# Altium schematic symbol library comm sub.SchLib: 89 symbols (part 4 of 4)
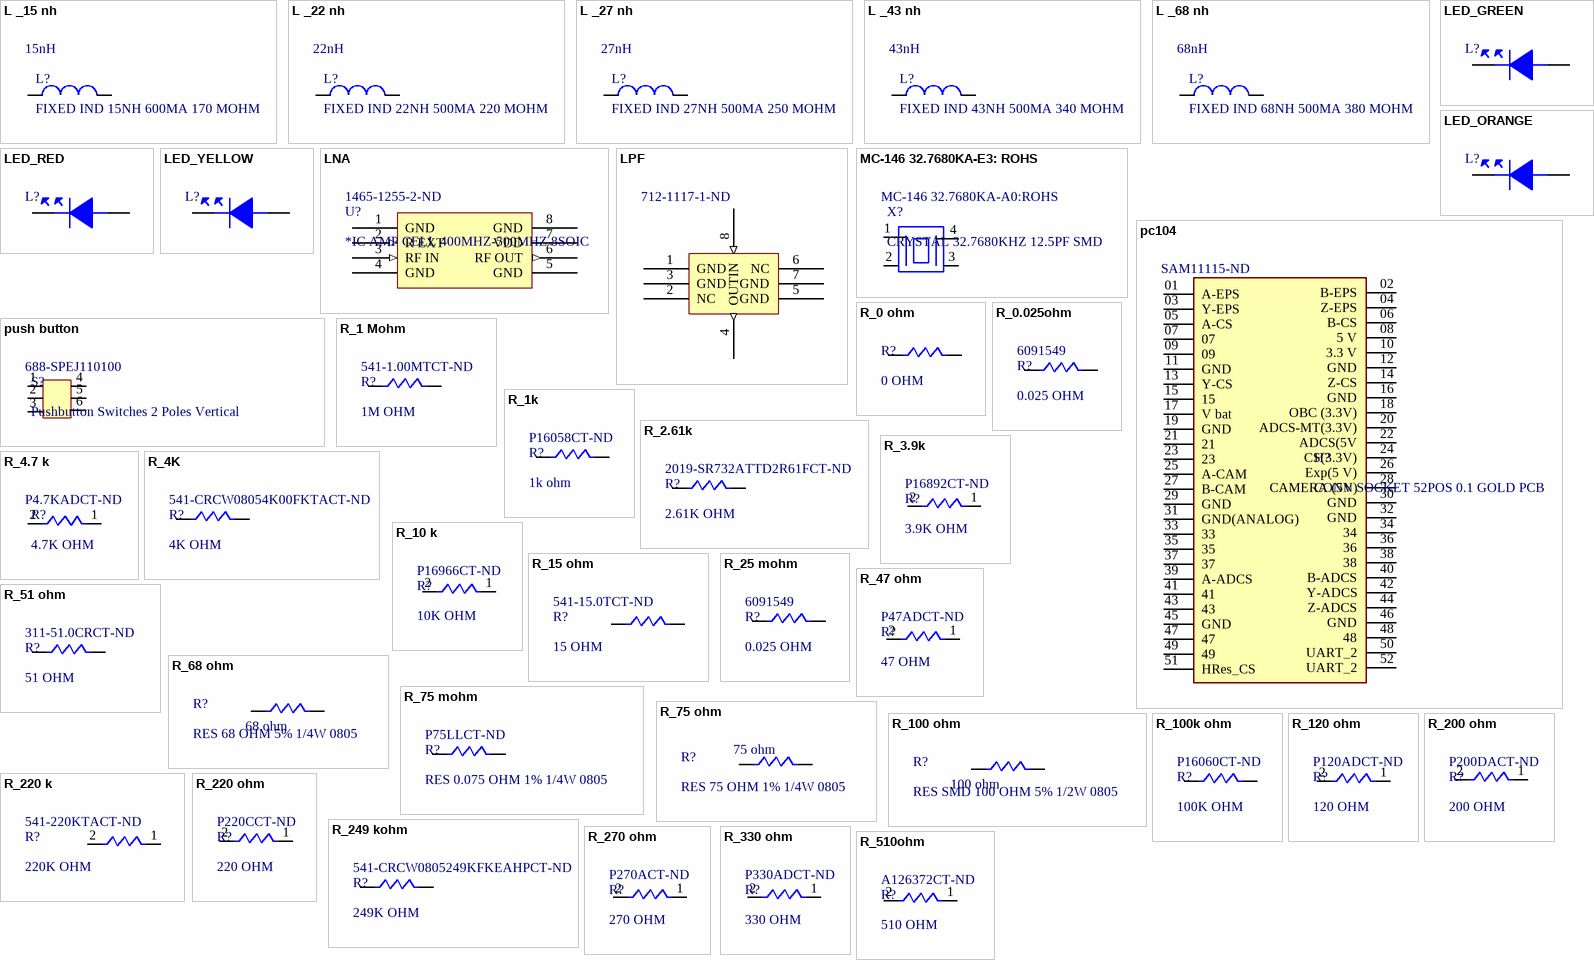
[diagram p5: symbols L _15 nh to R_510ohm]

## R_220 ohm
designator R?, comment 220 OHM  Supplier Part Number 1: P220CCT-ND
220 Ohms ±1% 0.125W, 1/8W Chip Resistor 0805 (2012 Metric) Automotive AEC-Q200 Thick Film; Manufacturer: Panasonic; Manufacturer Part Number: ERJ-P6WF2200V; Max Power Dissipation: 500mW; Temperature Coefficient: 200ppm/°C; Resistance: 220R; Voltage Rating: 150V; Resistance Tolerance: 5%; RoHS: Yes; Case/Package: 0805; Case Code (Imperial): 0805; Case Code (Metric): 2012; Contact Plating: Tin; Min Operating Temperature: -55°C; Max Operating Temperature: 155°C; Number of Terminations: 2; Termination: Flat; Features: Automotive AEC-Q200; Power Rating: 500mW; Tolerance: 1%; Packaging: Cut Tape; Resistor Type: Thick Film; Voltage Rating (DC): 150V; Length: 0.079inch; Width: 0.049inch; Height: 0.03inch; Depth: 1.25mm; REACH SVHC: No SVHC; Mount: Surface Mount; Package Quantity: 1; Series: ERJ; Construction: Rectangular; Radiation Hardening: No; Military Standard: Not; Lead Free: Lead Free; RoHS Compliant: Yes; ComponentLink1URL: https://datasheet.ciiva.com/17206/aoa0000ce4-17206853.pdf?src-supplier=Avnet+Europe; ComponentLink1Description: https://datasheet.ciiva.com/17206/aoa0000ce4-17206853.pdf?src-supplier=Avnet+Europe; ComponentLink2URL: https://datasheet.ciiva.com/7887/aoa0000ce4-7887046.pdf?src-supplier=Element14; ComponentLink2Description: https://datasheet.ciiva.com/7887/aoa0000ce4-7887046.pdf?src-supplier=Element14; ComponentLink3URL: https://datasheet.ciiva.com/9184/aoa0000ce4-9184454.pdf?src-supplier=Avnet; ComponentLink3Description: https://datasheet.ciiva.com/9184/aoa0000ce4-9184454.pdf?src-supplier=Avnet; ComponentLink4URL: https://datasheet.ciiva.com/30254/aoa0000ce4-30254695.pdf?src-supplier=Onlinecomponents.com; ComponentLink4Description: https://datasheet.ciiva.com/30254/aoa0000ce4-30254695.pdf?src-supplier=Onlinecomponents.com; ComponentLink5URL: https://datasheet.ciiva.com/6139/aoa0000ce4-6139150.pdf?src-supplier=Farnell; ComponentLink5Description: https://datasheet.ciiva.com/6139/aoa0000ce4-6139150.pdf?src-supplier=Farnell; Supplier 1: Digi-Key; Stock 1: 417690; Pricing 1: 1 = 0.10000, 10 = 0.06500, 100 = 0.02500, 1000 = 0.01100, 2500 = 0.00950 (USD); Number of Pins: 2; Technology: THICK FILM; ComponentLink6URL: https://datasheet.ciiva.com/11821/0900766b80f80784-11821561.pdf?src-supplier=RSComponents; ComponentLink6Description: https://datasheet.ciiva.com/11821/0900766b80f80784-11821561.pdf?src-supplier=RSComponents; ComponentLink7URL: https://datasheet.ciiva.com/26914/getdatasheetpartid-123856-26914677.pdf?src-supplier=Verical; ComponentLink7Description: https://datasheet.ciiva.com/26914/getdatasheetpartid-123856-26914677.pdf?src-supplier=Verical; ComponentLink8URL: https://datasheet.ciiva.com/43511/aoa0000ce2-43511461.pdf?src-supplier=Onlinecomponents.com; ComponentLink8Description: https://datasheet.ciiva.com/43511/aoa0000ce2-43511461.pdf?src-supplier=Onlinecomponents.com; ComponentLink9URL: https://datasheet.ciiva.com/7887/426256-7887031.pdf?src-supplier=Element14; ComponentLink9Description: https://datasheet.ciiva.com/7887/426256-7887031.pdf?src-supplier=Element14; ComponentLink10URL: https://datasheet.ciiva.com/28568/1678782-28568983.pdf?src-supplier=Element14; ComponentLink10Description: https://datasheet.ciiva.com/28568/1678782-28568983.pdf?src-supplier=Element14; ComponentLink11URL: https://datasheet.ciiva.com/16771/70260748-16771368.pdf?src-supplier=Allied+Electronics; ComponentLink11Description: https://datasheet.ciiva.com/16771/70260748-16771368.pdf?src-supplier=Allied+Electronics; ComponentLink12URL: https://datasheet.ciiva.com/16784/70260748-16784746.pdf?src-supplier=Allied+Electronics; ComponentLink12Description: https://datasheet.ciiva.com/16784/70260748-16784746.pdf?src-supplier=Allied+Electronics; ComponentLink13URL: https://datasheet.ciiva.com/22668/1678782-22668331.pdf?src-supplier=Element14; ComponentLink13Description: https://datasheet.ciiva.com/22668/1678782-22668331.pdf?src-supplier=Element14; ComponentLink14URL: https://datasheet.ciiva.com/9184/aoa0000ce2-9184302.pdf?src-supplier=Avnet; ComponentLink14Description: https://datasheet.ciiva.com/9184/aoa0000ce2-9184302.pdf?src-supplier=Avnet
footprint 0805 R
pins: 1, 2

## R_249 kohm
designator R?, comment 249K OHM  Supplier Part Number 1: 541-CRCW0805249KFKEAHPCT-ND
249 kOhms ±1% 0.5W, 1/2W Chip Resistor 0805 (2012 Metric) Automotive AEC-Q200, Pulse Withstanding Thick Film; Manufacturer: Vishay Dale; Manufacturer Part Number: CRCW0805249KFKEAHP; Resistance: 249kR; Power Rating: 330mW; Max Power Dissipation: 500mW; Temperature Coefficient: 100ppm/°C; ComponentLink1URL: http://www.vishay.com/docs/28773/crcwce3.pdf?src-supplier=Digi-Key; ComponentLink1Description: http://www.vishay.com/docs/28773/crcwce3.pdf?src-supplier=Digi-Key; ComponentLink2URL: https://datasheet.ciiva.com/2581/crcwhpe3-2581775.pdf?src-supplier=Digi-Key; ComponentLink2Description: https://datasheet.ciiva.com/2581/crcwhpe3-2581775.pdf?src-supplier=Digi-Key; Supplier 1: Digi-Key; RoHS: Yes; Stock 1: 4200; Pricing 1: 1 = 0.23000, 10 = 0.19200, 100 = 0.07520, 1000 = 0.03150, 2500 = 0.02888 (USD); Mount: Surface Mount; Case/Package: 0805; Contact Plating: Tin; Min Operating Temperature: -55°C; Max Operating Temperature: 155°C; Package Quantity: 5000; Tolerance: 1%; Packaging: Tape and Reel; Resistor Type: Thick Film; Number of Terminations: 2; Termination: Wraparound; Features: Automotive AEC-Q200; Series: CRCW-HP; Length: 0.079inch; Width: 0.049inch; Height: 0.024inch; Lead Free: Lead Free; RoHS Compliant: Yes
footprint 0805 R
pins: 1, 2

## R_270 ohm
designator R?, comment 270 OHM  Supplier Part Number 1: P270ACT-ND
270 Ohms ±5% 0.125W, 1/8W Chip Resistor 0805 (2012 Metric) Automotive AEC-Q200 Thick Film; Manufacturer: Panasonic; Manufacturer Part Number: ERJ-6ENF2700V; Resistance: 270R; Power Rating: 125mW; Tolerance: 1%; Voltage Rating: 150V; Temperature Coefficient: 100ppm/°C; RoHS: Yes; Mount: Surface Mount; Case/Package: 0805; Number of Pins: 2; Case Code (Metric): 2012; Case Code (Imperial): 0805; Contact Plating: Tin; Weight: 0.000194oz; Min Operating Temperature: -55°C; Max Operating Temperature: 155°C; Packaging: Tape and Reel; Package Quantity: 1; Resistor Type: Thick Film; Number of Terminations: 2; Termination: SMD/SMT; Max Power Dissipation: 125mW; Voltage Rating (DC): 150V; Features: Automotive AEC-Q200; Length: 2mm; Width: 0.049inch; Height: 0.6mm; Depth: 1.25mm; Radiation Hardening: No; REACH SVHC: No SVHC; Military Standard: Not; Lead Free: Lead Free; Supplier 1: Digi-Key; Stock 1: 51818; Pricing 1: 1 = 0.10000, 10 = 0.04900, 100 = 0.02010, 1000 = 0.00901, 2500 = 0.00782 (USD); Working Voltage: 150V; Series: ERJ; Technology: THICK FILM; Resistance Tolerance: 5%; Construction: Rectangular; RoHS Compliant: Yes; ComponentLink1URL: https://datasheet.ciiva.com/34303/1989800-34303655.pdf?src-supplier=Jameco; ComponentLink1Description: https://datasheet.ciiva.com/34303/1989800-34303655.pdf?src-supplier=Jameco; ComponentLink2URL: https://datasheet.ciiva.com/11821/0900766b80f806dd-11821582.pdf?src-supplier=RSComponents; ComponentLink2Description: https://datasheet.ciiva.com/11821/0900766b80f806dd-11821582.pdf?src-supplier=RSComponents; ComponentLink3URL: https://datasheet.ciiva.com/16513/aoa0000ce1-16513781.pdf?src-supplier=Avnet+Asia; ComponentLink3Description: https://datasheet.ciiva.com/16513/aoa0000ce1-16513781.pdf?src-supplier=Avnet+Asia; ComponentLink4URL: https://datasheet.ciiva.com/16769/70255313-16769077.pdf?src-supplier=Allied+Electronics; ComponentLink4Description: https://datasheet.ciiva.com/16769/70255313-16769077.pdf?src-supplier=Allied+Electronics; ComponentLink5URL: https://datasheet.ciiva.com/15159/getdatasheetpartid-250215-15159111.pdf?src-supplier=Verical; ComponentLink5Description: https://datasheet.ciiva.com/15159/getdatasheetpartid-250215-15159111.pdf?src-supplier=Verical; ComponentLink6URL: https://datasheet.ciiva.com/46377/1500035-46377352.pdf?src-supplier=Element14; ComponentLink6Description: https://datasheet.ciiva.com/46377/1500035-46377352.pdf?src-supplier=Element14; ComponentLink7URL: https://datasheet.ciiva.com/9183/aoa0000ce1-9183769.pdf?src-supplier=Avnet; ComponentLink7Description: https://datasheet.ciiva.com/9183/aoa0000ce1-9183769.pdf?src-supplier=Avnet; ComponentLink8URL: https://datasheet.ciiva.com/28591/1678796-28591001.pdf?src-supplier=Element14; ComponentLink8Description: https://datasheet.ciiva.com/28591/1678796-28591001.pdf?src-supplier=Element14; ComponentLink9URL: https://datasheet.ciiva.com/17206/aoa0000ce1-17206494.pdf?src-supplier=Avnet+Europe; ComponentLink9Description: https://datasheet.ciiva.com/17206/aoa0000ce1-17206494.pdf?src-supplier=Avnet+Europe; ComponentLink10URL: https://datasheet.ciiva.com/46389/1500035-46389086.pdf?src-supplier=Element14; ComponentLink10Description: https://datasheet.ciiva.com/46389/1500035-46389086.pdf?src-supplier=Element14; ComponentLink11URL: https://datasheet.ciiva.com/5860/1500035-5860703.pdf?src-supplier=Farnell; ComponentLink11Description: https://datasheet.ciiva.com/5860/1500035-5860703.pdf?src-supplier=Farnell
footprint 0805 R
pins: 1, 2

## R_330 ohm
designator R?, comment 330 OHM  Supplier Part Number 1: P330ADCT-ND
330 Ohms ±5% 0.5W, 1/2W Chip Resistor 0805 (2012 Metric) Automotive AEC-Q200, Pulse Withstanding Thick Film; Manufacturer: Panasonic; Manufacturer Part Number: ERJ-6ENF3300V; Voltage Rating: 150V; Resistance: 330R; Power Rating: 125mW; Tolerance: 1%; Temperature Coefficient: 100ppm/°C; RoHS: Yes; Mount: Surface Mount; Case/Package: 0805; Number of Pins: 2; Case Code (Imperial): 0805; Case Code (Metric): 2012; Contact Plating: Tin; Min Operating Temperature: -55°C; Max Operating Temperature: 155°C; Packaging: Tape and Reel; Package Quantity: 1; Resistor Type: Thick Film; Number of Terminations: 2; Termination: SMD/SMT; Max Power Dissipation: 125mW; Features: Automotive AEC-Q200; Length: 2mm; Width: 1.2mm; Height: 0.6mm; Depth: 1.25mm; Radiation Hardening: No; REACH SVHC: No SVHC; Military Standard: Not; Supplier 1: Digi-Key; Stock 1: 4895; Pricing 1: 1 = 0.10000, 10 = 0.09400, 100 = 0.03600, 1000 = 0.01584, 2500 = 0.01368 (USD); Voltage Rating (DC): 150V; Series: ERJ; Construction: Rectangular; Resistance Tolerance: 5%; Lead Free: Lead Free; RoHS Compliant: Yes; ComponentLink1URL: https://datasheet.ciiva.com/6139/aoa0000ce4-6139161.pdf?src-supplier=Farnell; ComponentLink1Description: https://datasheet.ciiva.com/6139/aoa0000ce4-6139161.pdf?src-supplier=Farnell; ComponentLink2URL: https://datasheet.ciiva.com/30243/aoa0000ce4-30243786.pdf?src-supplier=Onlinecomponents.com; ComponentLink2Description: https://datasheet.ciiva.com/30243/aoa0000ce4-30243786.pdf?src-supplier=Onlinecomponents.com; ComponentLink3URL: https://datasheet.ciiva.com/7887/aoa0000ce4-7887047.pdf?src-supplier=Element14; ComponentLink3Description: https://datasheet.ciiva.com/7887/aoa0000ce4-7887047.pdf?src-supplier=Element14
footprint 0805 R
pins: 1, 2

## R_510ohm
designator R?, comment 510 OHM  Supplier Part Number 1: A126372CT-ND
510 Ohms ±1% 0.125W, 1/8W Chip Resistor 0805 (2012 Metric)  Thick Film; Manufacturer: Panasonic; Manufacturer Part Number: ERJ-6ENF5100V; Voltage Rating: 150V; Power Rating: 125mW; Resistance: 510R; Temperature Coefficient: 100ppm/°C; RoHS: Yes; Mount: Surface Mount; Case/Package: 0805; Case Code (Metric): 2012; Case Code (Imperial): 0805; Contact Plating: Tin; Weight: 0.000194oz; Min Operating Temperature: -55°C; Max Operating Temperature: 155°C; Tolerance: 1%; Packaging: Tape and Reel; Package Quantity: 5000; Resistor Type: Thick Film; Number of Terminations: 2; Termination: SMD/SMT; Max Power Dissipation: 125mW; Length: 2mm; Width: 0.049inch; Height: 0.028inch; Depth: 1.25mm; Radiation Hardening: No; REACH SVHC: No SVHC; Military Standard: Not; Voltage Rating (DC): 150V; Features: Automotive AEC-Q200; Series: ERJ; Construction: Rectangular; Lead Free: Lead Free; RoHS Compliant: Yes; ComponentLink1URL: https://datasheet.ciiva.com/9181/aoa0000ce4-9181545.pdf?src-supplier=Avnet; ComponentLink1Description: https://datasheet.ciiva.com/9181/aoa0000ce4-9181545.pdf?src-supplier=Avnet; ComponentLink2URL: https://datasheet.ciiva.com/30096/aoa0000ce4-30096009.pdf?src-supplier=Onlinecomponents.com; ComponentLink2Description: https://datasheet.ciiva.com/30096/aoa0000ce4-30096009.pdf?src-supplier=Onlinecomponents.com; ComponentLink3URL: https://datasheet.ciiva.com/24041/aoa0000ce4-64075-24041195.pdf?src-supplier=Mouser; ComponentLink3Description: https://datasheet.ciiva.com/24041/aoa0000ce4-64075-24041195.pdf?src-supplier=Mouser; ComponentLink4URL: https://datasheet.ciiva.com/17205/aoa0000ce4-17205436.pdf?src-supplier=Avnet+Europe; ComponentLink4Description: https://datasheet.ciiva.com/17205/aoa0000ce4-17205436.pdf?src-supplier=Avnet+Europe; Supplier 1: Digi-Key; Stock 1: 208800; Pricing 1: 1 = 0.10000, 10 = 0.04500, 100 = 0.01820, 1000 = 0.00816, 2500 = 0.00708 (USD); ComponentLink5URL: https://datasheet.ciiva.com/2530/eng-cd-1623243-ba-2530161.pdf?src-supplier=Digi-Key; ComponentLink5Description: https://datasheet.ciiva.com/2530/eng-cd-1623243-ba-2530161.pdf?src-supplier=Digi-Key; ComponentLink6URL: https://datasheet.ciiva.com/30065/eng-ds-1773204-e-30065884.pdf?src-supplier=Onlinecomponents.com; ComponentLink6Description: https://datasheet.ciiva.com/30065/eng-ds-1773204-e-30065884.pdf?src-supplier=Onlinecomponents.com
footprint 0805 R
pins: 1, 2

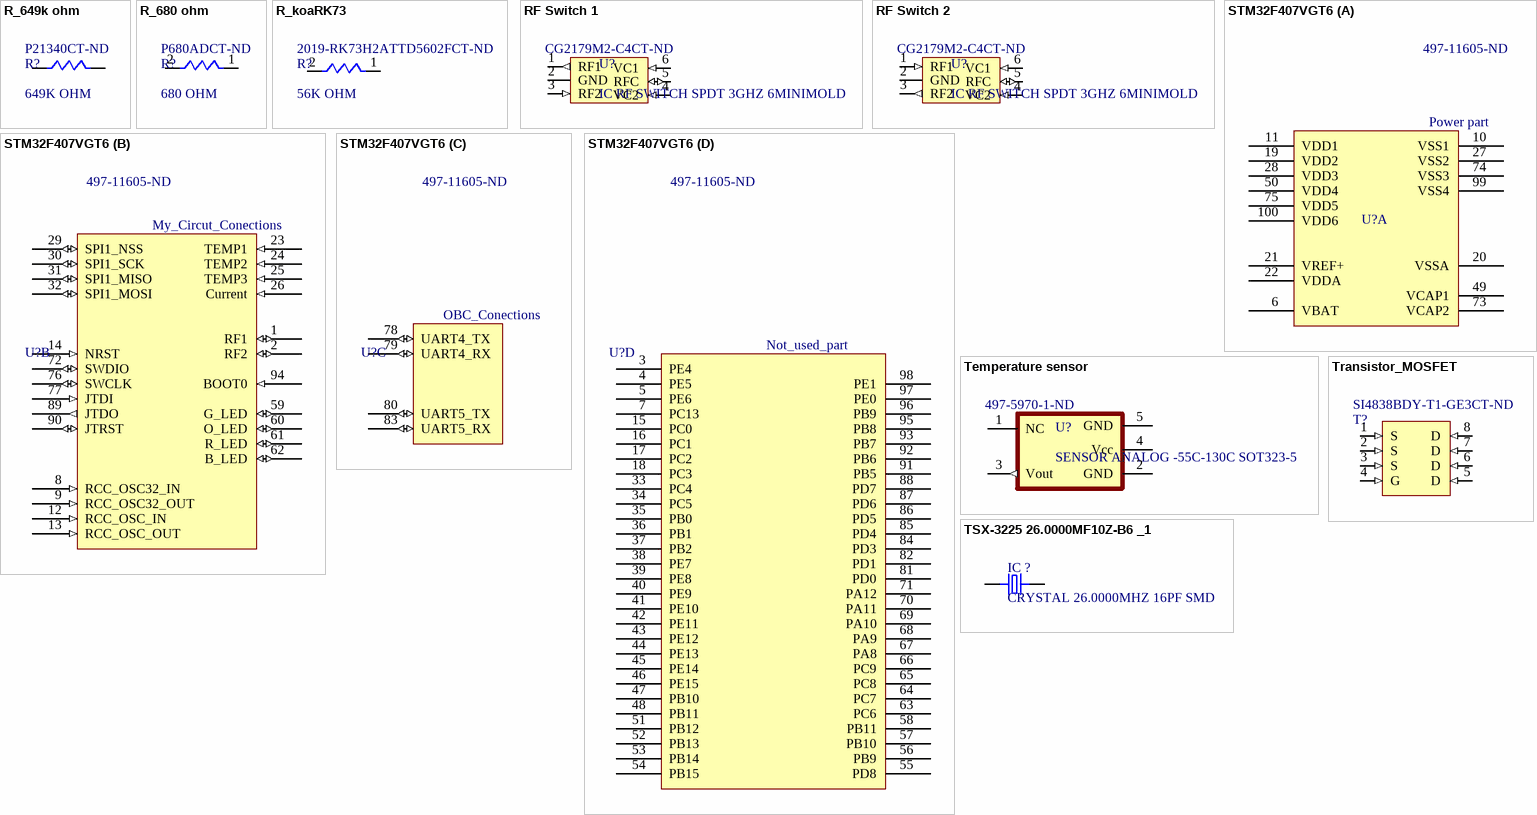
[diagram p2: symbols R_649k ohm to TSX-3225 26.0000MF10Z-B6 _1]

## R_649k ohm
designator R?, comment 649K OHM  Supplier Part Number 1: P21340CT-ND
649 kOhms ±0.5% 0.25W, 1/4W Chip Resistor 0805 (2012 Metric) Automotive AEC-Q200, Pulse Withstanding Thick Film; Manufacturer: Vishay; Manufacturer Part Number: CRCW08050000Z0EAC; Power Rating: 125mW; Resistance: 20R; Max Power Dissipation: 250mW; Temperature Coefficient: 50ppm/°C; RoHS: Yes; Mount: Surface Mount; Case/Package: Molded; Contact Plating: Tin; Min Operating Temperature: -55°C; Max Operating Temperature: 155°C; Resistor Type: Thick Film; Termination: Wraparound; Length: 2mm; Lead Free: Lead Free; ComponentLink1URL: http://www.vishay.com/docs/28773/crcwce3.pdf?src-supplier=Digi-Key; ComponentLink1Description: http://www.vishay.com/docs/28773/crcwce3.pdf?src-supplier=Digi-Key; Supplier 1: Digi-Key; Stock 1: 4016; Pricing 1: 1 = 0.23000, 10 = 0.19100, 25 = 0.13920, 50 = 0.10100, 100 = 0.07480, 250 = 0.05744, 500 = 0.04524, 1000 = 0.03132 (USD); Case Code (Imperial): 0805; Case Code (Metric): 2012; Tolerance: 0.5%; Packaging: Tape and Reel; Number of Terminations: 2; Features: Automotive AEC-Q200; Width: 0.049inch; Height - Seated (Max): 0.028inch; ComponentLink2URL: https://industrial.panasonic.com/sa/system/files/data/download/catalog/id_fixed-resistors_e_2.pdf?src-supplier=Digi-Key; ComponentLink2Description: https://industrial.panasonic.com/sa/system/files/data/download/catalog/id_fixed-resistors_e_2.pdf?src-supplier=Digi-Key
footprint 0805 R
pins: 1, 2

## R_680 ohm
designator R?, comment 680 OHM  Supplier Part Number 1: P680ADCT-ND
680 Ohms ±5% 0.5W, 1/2W Chip Resistor 0805 (2012 Metric) Automotive AEC-Q200, Pulse Withstanding Thick Film; Manufacturer: Panasonic; Manufacturer Part Number: ERJ6ENF6800V; Resistance: 680R; Power Rating: 125mW; Tolerance: 1%; Voltage Rating: 150V; Temperature Coefficient: 100ppm/°C; RoHS: Yes; Mount: Surface Mount; Case/Package: 0805; Number of Pins: 2; Case Code (Metric): 2012; Case Code (Imperial): 0805; Contact Plating: Tin; Min Operating Temperature: -55°C; Max Operating Temperature: 155°C; Packaging: Tape and Reel; Package Quantity: 1; Resistor Type: Thick Film; Number of Terminations: 2; Termination: SMD/SMT; Max Power Dissipation: 125mW; Features: Automotive AEC-Q200; Length: 2mm; Width: 0.049inch; Height: 0.6mm; Depth: 1.25mm; Radiation Hardening: No; REACH SVHC: No SVHC; Military Standard: Not; Supplier 1: Digi-Key; Stock 1: 1807; Pricing 1: 1 = 0.10000, 10 = 0.09400, 100 = 0.03600, 1000 = 0.01584, 2500 = 0.01512 (USD); Voltage Rating (DC): 150V; Series: ERJ; Construction: Rectangular; Lead Free: Lead Free; RoHS Compliant: Yes; ComponentLink1URL: https://datasheet.ciiva.com/24027/aoa0000ce4-64075-24027685.pdf?src-supplier=Mouser; ComponentLink1Description: https://datasheet.ciiva.com/24027/aoa0000ce4-64075-24027685.pdf?src-supplier=Mouser; ComponentLink2URL: https://datasheet.ciiva.com/17205/aoa0000ce4-17205309.pdf?src-supplier=Avnet+Europe; ComponentLink2Description: https://datasheet.ciiva.com/17205/aoa0000ce4-17205309.pdf?src-supplier=Avnet+Europe; ComponentLink3URL: https://datasheet.ciiva.com/30257/aoa0000ce4-30257881.pdf?src-supplier=Onlinecomponents.com; ComponentLink3Description: https://datasheet.ciiva.com/30257/aoa0000ce4-30257881.pdf?src-supplier=Onlinecomponents.com; ComponentLink4URL: https://datasheet.ciiva.com/9180/aoa0000ce4-9180604.pdf?src-supplier=Avnet; ComponentLink4Description: https://datasheet.ciiva.com/9180/aoa0000ce4-9180604.pdf?src-supplier=Avnet
footprint 0805 R
pins: 1, 2

## R_koaRK73
designator R?, comment 56K OHM  Supplier Part Number 1: 2019-RK73H2ATTD5602FCT-ND
56 kOhms ±5% 0.25W, 1/4W Chip Resistor 0805 (2012 Metric) Automotive AEC-Q200, Moisture Resistant Thick Film; Manufacturer: Panasonic; Manufacturer Part Number: ERJ-6ENF3901V; Tolerance: 1%; Resistance: 3.9kR; Power Rating: 125mW; Voltage Rating: 150V; Temperature Coefficient: 100ppm/°C; RoHS: Yes; Mount: Surface Mount; Case/Package: 0805; Case Code (Metric): 2012; Case Code (Imperial): 0805; Contact Plating: Tin; Min Operating Temperature: -55°C; Max Operating Temperature: 155°C; Packaging: Tape and Reel; Package Quantity: 1; Resistor Type: Thick Film; Number of Terminations: 2; Termination: SMD/SMT; Max Power Dissipation: 125mW; Voltage Rating (DC): 150V; Features: Automotive AEC-Q200; Length: 2mm; Width: 0.049inch; Height: 0.6mm; Depth: 1.25mm; Radiation Hardening: No; Lead Free: Lead Free; REACH SVHC: Yes; Military Standard: Not; Number of Pins: 2; ComponentLink1URL: https://datasheet.ciiva.com/7706/548635-7706044.pdf?src-supplier=Element14; ComponentLink1Description: https://datasheet.ciiva.com/7706/548635-7706044.pdf?src-supplier=Element14; Supplier 1: Digi-Key
footprint 0805 R
pins: 1, 2

## RF Switch 1
designator U?, comment IC RF SWITCH SPDT 3GHZ 6MINIMOLD  Supplier Part Number 1: CG2179M2-C4CT-ND
RF Switch IC 802.11b/g/n/ac SPDT 3GHz 50Ohm 6-Minimold; Manufacturer: CEL; Manufacturer Part Number: CG2179M2-C4; Insertion Loss: 0.45dB; IIP3: 58dBm; Impedance: 50R; Supplier 1: Digi-Key; RoHS: No; Stock 1: 42321; Pricing 1: 1 = 0.71000, 10 = 0.62700, 25 = 0.58920, 100 = 0.48070, 250 = 0.44652, 500 = 0.38000, 1000 = 0.27930, 2500 = 0.25270, 5000 = 0.23560 (USD); Case/Package: SMD/SMT; Min Operating Temperature: -45°C; Max Operating Temperature: 85°C; Throw Configuration: SPDT; Packaging: Tape and Reel; Test Frequency: 3GHz; Lead Free: Lead Free; ComponentLink1URL: http://www.cel.com/pdf/datasheets/CG2179M2.pdf?src-supplier=Digi-Key; ComponentLink1Description: http://www.cel.com/pdf/datasheets/CG2179M2.pdf?src-supplier=Digi-Key
footprint RF
pins: 1 RF1 (out), 2 GND, 3 RF2 (in), 4 VC2 (in), 5 RFC (io), 6 VC1 (in)

## RF Switch 2
designator U?, comment IC RF SWITCH SPDT 3GHZ 6MINIMOLD  Supplier Part Number 1: CG2179M2-C4CT-ND
RF Switch IC 802.11b/g/n/ac SPDT 3GHz 50Ohm 6-Minimold; Manufacturer: CEL; Manufacturer Part Number: CG2179M2-C4; Insertion Loss: 0.45dB; IIP3: 58dBm; Impedance: 50R; RoHS: No; Case/Package: SMD/SMT; Min Operating Temperature: -45°C; Max Operating Temperature: 85°C; Throw Configuration: SPDT; Packaging: Tape and Reel; Test Frequency: 3GHz; Lead Free: Lead Free; ComponentLink1URL: http://www.cel.com/pdf/datasheets/CG2179M2.pdf?src-supplier=Digi-Key; ComponentLink1Description: http://www.cel.com/pdf/datasheets/CG2179M2.pdf?src-supplier=Digi-Key; Supplier 1: Digi-Key
footprint RF
pins: 1 RF1 (in), 2 GND, 3 RF2 (out), 4 VC2 (in), 5 RFC (io), 6 VC1 (in)

## STM32F407VGT6
designator U?, comment Supplier Part Number 1: 497-11605-ND  (hidden comment: IC MCU 32BIT 1MB FLASH 100LQFP)
ARM® Cortex®-M4 STM32F4 Microcontroller IC 32-Bit 168MHz 1MB (1M x 8) FLASH 100-LQFP (14x14); Manufacturer: STMicroelectronics; Manufacturer Part Number: STM32F407VGT6; Interface: I2C,SPI,CAN,I2S,UART,USB,Ethernet,IrDA,USART,LIN,EBI/EMI; Number of I/Os: 82; Number of Timers/Counters: 14; RAM Size: 196KB; Number of ADC Channels: 16; Number of PWM Channels: 2; Number of Ethernet Channels: 1; Max Supply Voltage: 3.6V; Min Supply Voltage: 1.8V; Data Bus Width: 32b; Oscillator Type: Internal; Number of SPI Channels: 3; Watchdog Timer: Yes; Memory Size: 1024KB; Peripherals: Brown-out Detect/Reset,POR,PWM,WDT,DMA,LCD,I2C; Core Architecture: ARM; Supplier 1: Digi-Key; RoHS: Yes; Stock 1: 6428; Pricing 1: 1 = 12.86000, 10 = 11.82200, 25 = 11.33200, 90 = 9.98444, 270 = 9.49437, 450 = 8.88182, 990 = 8.14678, 2430 = 7.84051 (USD); Case/Package: LQFP; Number of Pins: 100; Min Operating Temperature: -40°C; Max Operating Temperature: 85°C; Frequency: 168MHz; Package Quantity: 90; Number of UART Channels: 2; Packaging: Tray; Number of Programmable I/O: 82; Max Frequency: 168MHz; Number of I2C Channels: 3; Address Bus Width: 32b; Memory Type: FLASH; Length: 14.2mm; Width: 14.2mm; Height: 1.45mm; Radiation Hardening: No; REACH SVHC: No SVHC; Lead Free: Lead Free; ComponentLink1URL: https://datasheet.ciiva.com/14132/stm32f407vgt6-tds-eng-14132567.pdf?src-supplier=Distrelec; ComponentLink1Description: https://datasheet.ciiva.com/14132/stm32f407vgt6-tds-eng-14132567.pdf?src-supplier=Distrelec; ComponentLink2URL: https://datasheet.ciiva.com/4842/dm00037051-492832-4842280.pdf?src-supplier=Mouser; ComponentLink2Description: https://datasheet.ciiva.com/4842/dm00037051-492832-4842280.pdf?src-supplier=Mouser; ComponentLink3URL: https://datasheet.ciiva.com/48687/001075599-da-01-en-mcu-32bt-1mb-stm32f407vgt6-lqfp-100-stm-48687547.pdf?src-supplier=Conrad; ComponentLink3Description: https://datasheet.ciiva.com/48687/001075599-da-01-en-mcu-32bt-1mb-stm32f407vgt6-lqfp-100-stm-48687547.pdf?src-supplier=Conrad
footprint STM32F407VGT6 P (TSQFP, 100-Leads, Body 14.00x14.00mm, Pitch 0.50mm, IPC Medium Density)
part A pins: 6 VBAT (power) "VBat", 10 VSS1 (power) "VSS", 11 VDD1 (power) "VDD", 19 VDD2 (power) "VDD", 20 VSSA (power), 21 VREF+ (power), 22 VDDA (power), 27 VSS2 (power) "VSS", 28 VDD3 (power) "VDD", 49 VCAP1 (power) "V_CAP1", 50 VDD4 (power) "VDD", 73 VCAP2 (power) "V_CAP2", 74 VSS3 (power) "VSS", 75 VDD5 (power) "VDD", 99 VSS4 (power) "VSS", 100 VDD6 (power) "VDD"
part B pins: 1 RF1 (io), 2 RF2 (io), 8 RCC_OSC32_IN (in), 9 RCC_OSC32_OUT (in), 12 RCC_OSC_IN (in), 13 RCC_OSC_OUT (in), 14 NRST (in), 23 TEMP1 (in), 24 TEMP2 (in), 25 TEMP3 (in), 26 Current (in), 29 SPI1_NSS (io), 30 SPI1_SCK (io), 31 SPI1_MISO (io), 32 SPI1_MOSI (io), 59 G_LED (io), 60 O_LED (io), 61 R_LED (io), 62 B_LED (io), 72 SWDIO (io), 76 SWCLK (io), 77 JTDI (in), 89 JTDO (out), 90 JTRST (io), 94 BOOT0 (in)
part C pins: 78 UART4_TX (io), 79 UART4_RX (io), 80 UART5_TX (io), 83 UART5_RX (io)
part D pins: 3 PE4, 4 PE5, 5 PE6, 7 PC13, 15 PC0, 16 PC1, 17 PC2, 18 PC3, 33 PC4, 34 PC5, 35 PB0, 36 PB1, 37 PB2, 38 PE7, 39 PE8, 40 PE9, 41 PE10, 42 PE11, 43 PE12, 44 PE13, 45 PE14, 46 PE15, 47 PB10, 48 PB11, 51 PB12, 52 PB13, 53 PB14, 54 PB15, 55 PD8, 56 PB9, 57 PB10, 58 PB11, 63 PC6, 64 PC7, 65 PC8, 66 PC9, 67 PA8, 68 PA9, 69 PA10, 70 PA11, 71 PA12, 81 PD0, 82 PD1, 84 PD3, 85 PD4, 86 PD5, 87 PD6, 88 PD7, 91 PB5, 92 PB6, 93 PB7, 95 PB8, 96 PB9, 97 PE0, 98 PE1
part A text: Power part
part B text: My_Circut_Conections
part C text: OBC_Conections
part D text: Not_used_part

## Temperature sensor
designator U?, comment SENSOR ANALOG -55C-130C SOT323-5  Supplier Part Number 1: 497-5970-1-ND
Temperature Sensor Analog, Local -55°C ~ 130°C 11.77mV/°C SOT-323-5; Manufacturer: Texas Instruments; Manufacturer Part Number: TPS79933QDDCRQ1; MP: MAX9938FEUK+T; MF: Maxim Integrated; Number of Outputs: 1; Output Voltage: 3.3V; Max Power Dissipation: 500mW; Dropout Voltage: 90mV; Output Current: 200mA; Max Input Voltage: 6.5V; Min Input Voltage: 2.7V; Polarity: Positive; Accuracy: 2%; Output Voltage Accuracy: 1%; Quiescent Current: 40uA; Output Type: Fixed; Min Supply Voltage: 2.4V; Max Supply Voltage: 5.5V; Nominal Supply Current: 8uA; Purchase-URL: https://pricing.snapeda.com/search/part/MAX9938FEUK+T/?ref=eda; Price: None; Availability: Warning; SnapEDA_Link: https://www.snapeda.com/parts/MAX9938FEUK+T/Maxim%20Integrated/view-part/559558/?ref=snap; Check_prices: https://www.snapeda.com/parts/MAX9938FEUK+T/Maxim%20Integrated/view-part/559558/?ref=eda; Value: *; Package: SOT-5 Maxim; RoHS: Yes; Case/Package: TSOT; Number of Pins: 5; Contact Plating: Gold; Min Operating Temperature: -40°C; Max Operating Temperature: 125°C; Packaging: Tape and Reel; Package Quantity: 1; Max Output Current: 200mA; Number of Regulators: 1; Min Current Limit: 200mA; Nominal Output Voltage: 3.3V; Power Dissipation: 500mW; Min Output Voltage: 3.3V; Max Output Voltage: 3.3V; Radiation Hardening: No; REACH SVHC: No SVHC; Lead Free: Lead Free; Supplier 1: Digi-Key; Stock 1: 34551; Pricing 1: 1 = 0.83000, 10 = 0.72900, 25 = 0.68520, 100 = 0.55910, 500 = 0.44200, 1000 = 0.35360 (USD); Mount: Surface Mount; Max Supply Voltage (DC): 5.5V; Min Supply Voltage (DC): 2.4V; Operating Supply Current: 8uA; Termination: SMD/SMT; Series: STLM20; Supply Current: 8uA; Length: 2.2mm; Width: 1.35mm; Height: 1mm; RoHS Compliant: Yes; ComponentLink1URL: https://datasheet.ciiva.com/1514/1455553-1514032.pdf?src-supplier=Element14; ComponentLink1Description: https://datasheet.ciiva.com/1514/1455553-1514032.pdf?src-supplier=Element14; ComponentLink2URL: https://datasheet.ciiva.com/16635/cd00119601-16635456.pdf?src-supplier=Avnet+Europe; ComponentLink2Description: https://datasheet.ciiva.com/16635/cd00119601-16635456.pdf?src-supplier=Avnet+Europe; ComponentLink3URL: https://datasheet.ciiva.com/15098/getdatasheetpartid-50614-15098126.pdf?src-supplier=Verical; ComponentLink3Description: https://datasheet.ciiva.com/15098/getdatasheetpartid-50614-15098126.pdf?src-supplier=Verical; ComponentLink4URL: https://datasheet.ciiva.com/2847/cd00119601-2847248.pdf?src-supplier=Digi-Key; ComponentLink4Description: https://datasheet.ciiva.com/2847/cd00119601-2847248.pdf?src-supplier=Digi-Key; ComponentLink5URL: https://datasheet.ciiva.com/2847/cd00119601-2847249.pdf?src-supplier=Digi-Key; ComponentLink5Description: https://datasheet.ciiva.com/2847/cd00119601-2847249.pdf?src-supplier=Digi-Key
footprint temperture sensor (SOT23, 5-Leads, Body 2.00x2.10mm, Pitch 0.65mm, IPC Medium Density)
pins: 1 NC (power), 2 GND (power), 3 Vout (out), 4 Vcc (power), 5 GND (power)

## Transistor_MOSFET
designator T?, comment Supplier Part Number 1: SI4838BDY-T1-GE3CT-ND  (hidden comment: MOSFET N-CH 12V 34A 8-SOIC)
N-Channel 12V 34A (Tc) 2.5W (Ta), 5.7W (Tc) Surface Mount 8-SO; Manufacturer: Vishay Siliconix; Manufacturer Part Number: SI4838BDY-T1-GE3; Rds On Max: 2.7mR; Input Capacitance: 5.76nF; Rise Time: 92ns; Nominal Vgs: 400mV; Gate to Source Voltage (Vgs): 8V; Fall Time: 19ns; Turn-Off Delay Time: 34ns; Number of Elements: 1; Element Configuration: Single; Turn-On Delay Time: 48ns; ComponentLink1Description: Datta sheet; ComponentLink1URL: https://www.vishay.com/docs/68964/si4838bd.pdf; ComponentLink2Description: https://www.digikey.com/en/products/detail/vishay-siliconix/SI4838BDY-T1-GE3/2441666?s=N4IgTCBcDaIM4EsAsAOAzCgRgEwJ4FoAXARnwHMBTNEAXQF8g; ComponentLink2URL: https://www.digikey.com/en/products/detail/vishay-siliconix/SI4838BDY-T1-GE3/2441666?s=N4IgTCBcDaIM4EsAsAOAzCgRgEwJ4FoAXARnwHMBTNEAXQF8g; Supplier 1: Digi-Key; RoHS: Yes; Stock 1: 2068; Pricing 1: 1 = 1.64000, 10 = 1.34500, 25 = 1.32040, 100 = 1.04620, 500 = 0.88680, 1000 = 0.72239 (USD); Mount: Surface Mount; Case/Package: SOIC; Number of Pins: 8; Weight: 0.01787oz; Min Operating Temperature: -55°C; Max Operating Temperature: 150°C; Packaging: Tape and Reel; Package Quantity: 1; Drain to Source Voltage (Vdss): 12V; Continuous Drain Current (ID): 34A; Max Power Dissipation: 5.7W; Drain to Source Breakdown Voltage: 12V; Drain to Source Resistance: 2.7mR; Threshold Voltage: 400mV; Power Dissipation: 2.5W; Number of Channels: 1; On-State Resistance: 2.7mR; Polarity: N-CHANNEL; Series: TrenchFET®; Drain-source On Resistance-Max: 2.7mR; Length: 5mm; Width: 4mm; Height: 1.5mm; Radiation Hardening: No; REACH SVHC: Unknown; Lead Free: Lead Free; RoHS Compliant: Yes; ComponentLink3URL: https://datasheet.ciiva.com/26137/si4838bd-26137041.pdf?src-supplier=Avnet+Europe; ComponentLink3Description: https://datasheet.ciiva.com/26137/si4838bd-26137041.pdf?src-supplier=Avnet+Europe; ComponentLink4URL: https://datasheet.ciiva.com/23856/1719793-23856870.pdf?src-supplier=Newark; ComponentLink4Description: https://datasheet.ciiva.com/23856/1719793-23856870.pdf?src-supplier=Newark; ComponentLink5URL: https://datasheet.ciiva.com/4442/si4838bd-244494-4442712.pdf?src-supplier=Mouser; ComponentLink5Description: https://datasheet.ciiva.com/4442/si4838bd-244494-4442712.pdf?src-supplier=Mouser; ComponentLink6URL: https://datasheet.ciiva.com/26790/si4838bdy-t1-ge3-26790470.pdf?src-supplier=IIIC; ComponentLink6Description: https://datasheet.ciiva.com/26790/si4838bdy-t1-ge3-26790470.pdf?src-supplier=IIIC; ComponentLink7URL: https://datasheet.ciiva.com/943/si4838bd-943924.pdf?src-supplier=Digi-Key; ComponentLink7Description: https://datasheet.ciiva.com/943/si4838bd-943924.pdf?src-supplier=Digi-Key; ComponentLink8URL: https://datasheet.ciiva.com/6386/si4838bd-6386826.pdf?src-supplier=Digi-Key; ComponentLink8Description: https://datasheet.ciiva.com/6386/si4838bd-6386826.pdf?src-supplier=Digi-Key; ComponentLink9URL: https://datasheet.ciiva.com/22652/1719793-22652347.pdf?src-supplier=Element14; ComponentLink9Description: https://datasheet.ciiva.com/22652/1719793-22652347.pdf?src-supplier=Element14; ComponentLink10URL: https://datasheet.ciiva.com/6386/si4838bd-6386828.pdf?src-supplier=Digi-Key; ComponentLink10Description: https://datasheet.ciiva.com/6386/si4838bd-6386828.pdf?src-supplier=Digi-Key; ComponentLink11URL: https://datasheet.ciiva.com/11160/si4838bd-11160527.pdf?src-supplier=Avnet; ComponentLink11Description: https://datasheet.ciiva.com/11160/si4838bd-11160527.pdf?src-supplier=Avnet
footprint Transistor_MOSFET (SOIC, 8-Leads, Body 4.90x3.90mm, Pitch 1.27mm, IPC Medium Density)
pins: 1 S (in), 2 S (in), 3 S (in), 4 G (in), 5 D (in), 6 D (in), 7 D (in), 8 D (in)

## TSX-3225 26.0000MF10Z-B6 _1
designator IC ?, comment CRYSTAL 26.0000MHZ 16PF SMD
26MHz ±10ppm Crystal 16pF 40 Ohms 4-SMD, No Lead; Manufacturer: ECS International; MF: ECS Inc.; MP: ECS-80-32-5PX-TR; Frequency: 8MHz; Load Capacitance: 32pF; Tolerance: 30ppm; ESR (Equivalent Series Resistance): 60R; Frequency Stability: 50ppm; Digi-Key_Purchase_URL: https://www.digikey.ru/product-detail/en/ecs-inc/ECS-80-32-5PX-TR/XC1272CT-ND/827736?utm_source=snapeda&utm_medium=aggregator&utm_campaign=symbol; Value: *; Digi-Key_Part_Number: XC1272CT-ND; Package: HC49/US ECS International; SnapEDA_Link: https://www.snapeda.com/parts/ECS-80-32-5PX-TR/ECS%20Inc./view-part/903429/?ref=snap; Manufacturer Part Number: ECS-80-32-5PX-TR; RoHS: Yes; Mount: Surface Mount; Min Operating Temperature: -10°C; Max Operating Temperature: 70°C; Package Quantity: 1000; Packaging: Tape and Reel; Frequency Tolerance: 30ppm; Termination: SMD/SMT; Length: 0.449inch; Width: 4.8mm; Height: 0.169inch; Lead Free: Lead Free; ComponentLink3URL: https://datasheet.ciiva.com/852/csm-7x-852415.pdf?src-supplier=Digi-Key; ComponentLink3Description: https://datasheet.ciiva.com/852/csm-7x-852415.pdf?src-supplier=Digi-Key; Supplier 1: Digi-Key; Stock 1: 18508; Pricing 1: 1 = 0.33000, 10 = 0.27500, 50 = 0.24760, 100 = 0.22000, 500 = 0.20900, 1000 = 0.17600 (USD); Case/Package: SMD/SMT; ComponentLink1URL: https://www5.epsondevice.com/en/information/support/pdf/june_2018_psc_masterbook.pdf?src-supplier=Digi-Key; ComponentLink1Description: https://www5.epsondevice.com/en/information/support/pdf/june_2018_psc_masterbook.pdf?src-supplier=Digi-Key; ComponentLink2URL: https://support.epson.biz/td/api/doc_check.php?dl=brief_TSX-3225&amp;lang=en&src-supplier=Digi-Key; ComponentLink2Description: https://support.epson.biz/td/api/doc_check.php?dl=brief_TSX-3225&amp;lang=en&src-supplier=Digi-Key; Supplier Part Number 1: SER4213CT-ND
footprint OSCCC320X250X60
pins: 1, 3